# Altium schematic symbol library WS-TATV.SchLib: 24 symbols
Pins are listed as number, name and electrical type; pins without a type are passive.

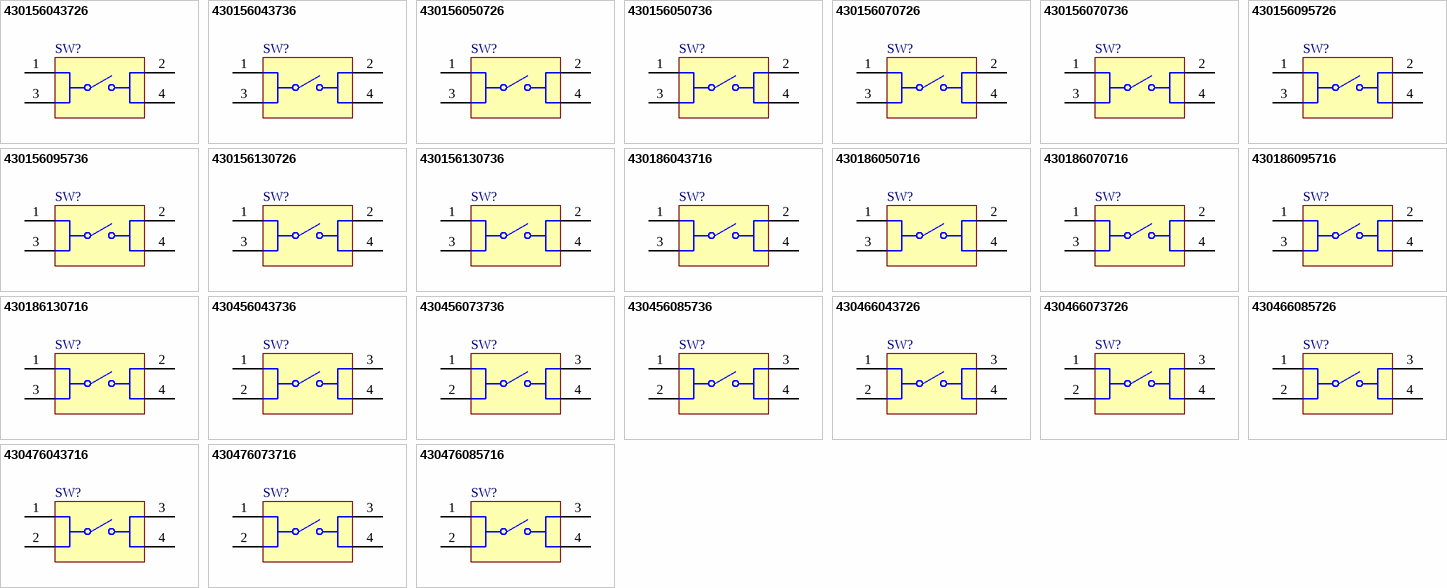
[diagram p0: symbols 430156043726 to 430476085716]

## 430156043726
designator SW?  (value not drawn)
WS-TATV THT Tact Switch 6x6mm, 260g, SPST-NO, 12V, 50mA; Manufacturer: Wurth Elektronik; Washable: No; Manufacturer Part Number: 430156043726; Category: Tact Switch; Match Code: WS-TATV; ComponentLink1Description: Website Link; ComponentLink1URL: https://www.we-online.com; ComponentLink2Description: Datasheet Link; ComponentLink2URL: https://www.we-online.com/components/products/datasheet/430156043726; Mount: Through Hole; Operating Temperature Min: -40degC; Operating Temperature Max: 85degC; Packaging: Bulk; Length: 6mm; Width: 6mm; Height: 4.3mm; Circuit: SPST-NO; Contact Material: Stainless Steel; Contact Plating: Silver; Operation Force: 260g; Rated Current: 50mA; Rated Voltage (DC): 12V; Terminal Material: Copper Alloy; Terminal Plating: Silver
footprint 430156043726
pins: 1, 2, 3, 4

## 430156043736
designator SW?  (value not drawn)
WS-TATV THT Tact Switch 6x6mm, 360g, SPST-NO, 12V, 50mA; Manufacturer: Wurth Elektronik; Washable: No; Manufacturer Part Number: 430156043736; Category: Tact Switch; Match Code: WS-TATV; ComponentLink1Description: Website Link; ComponentLink1URL: https://www.we-online.com; ComponentLink2Description: Datasheet Link; ComponentLink2URL: https://www.we-online.com/components/products/datasheet/430156043736; Mount: Through Hole; Operating Temperature Min: -40degC; Operating Temperature Max: 85degC; Packaging: Bulk; Length: 6mm; Width: 6mm; Height: 4.3mm; Circuit: SPST-NO; Contact Material: Stainless Steel; Contact Plating: Silver; Operation Force: 360g; Rated Current: 50mA; Rated Voltage (DC): 12V; Terminal Material: Copper Alloy; Terminal Plating: Silver
footprint 430156043736
pins: 1, 2, 3, 4

## 430156050726
designator SW?  (value not drawn)
WS-TATV THT Tact Switch 6x6mm, 260g, SPST-NO, 12V, 50mA; Manufacturer: Wurth Elektronik; Washable: No; Manufacturer Part Number: 430156050726; Category: Tact Switch; Match Code: WS-TATV; ComponentLink1Description: Website Link; ComponentLink1URL: https://www.we-online.com; ComponentLink2Description: Datasheet Link; ComponentLink2URL: https://www.we-online.com/components/products/datasheet/430156050726; Mount: Through Hole; Operating Temperature Min: -40degC; Operating Temperature Max: 85degC; Packaging: Bulk; Length: 6mm; Width: 6mm; Height: 5mm; Circuit: SPST-NO; Contact Material: Stainless Steel; Contact Plating: Silver; Operation Force: 260g; Rated Current: 50mA; Rated Voltage (DC): 12V; Terminal Material: Copper Alloy; Terminal Plating: Silver
footprint 430156050726
pins: 1, 2, 3, 4

## 430156050736
designator SW?  (value not drawn)
WS-TATV THT Tact Switch 6x6mm, 360g, SPST-NO, 12V, 50mA; Manufacturer: Wurth Elektronik; Washable: No; Manufacturer Part Number: 430156050736; Category: Tact Switch; Match Code: WS-TATV; ComponentLink1Description: Website Link; ComponentLink1URL: https://www.we-online.com; ComponentLink2Description: Datasheet Link; ComponentLink2URL: https://www.we-online.com/components/products/datasheet/430156050736; Mount: Through Hole; Operating Temperature Min: -40degC; Operating Temperature Max: 85degC; Packaging: Bulk; Length: 6mm; Width: 6mm; Height: 5mm; Circuit: SPST-NO; Contact Material: Stainless Steel; Contact Plating: Silver; Operation Force: 360g; Rated Current: 50mA; Rated Voltage (DC): 12V; Terminal Material: Copper Alloy; Terminal Plating: Silver
footprint 430156050736
pins: 1, 2, 3, 4

## 430156070726
designator SW?  (value not drawn)
WS-TATV THT Tact Switch 6x6mm, 260g, SPST-NO, 12V, 50mA; Manufacturer: Wurth Elektronik; Washable: No; Manufacturer Part Number: 430156070726; Category: Tact Switch; Match Code: WS-TATV; ComponentLink1Description: Website Link; ComponentLink1URL: https://www.we-online.com; ComponentLink2Description: Datasheet Link; ComponentLink2URL: https://www.we-online.com/components/products/datasheet/430156070726; Mount: Through Hole; Operating Temperature Min: -40degC; Operating Temperature Max: 85degC; Packaging: Bulk; Length: 6mm; Width: 6mm; Height: 7mm; Circuit: SPST-NO; Contact Material: Stainless Steel; Contact Plating: Silver; Operation Force: 260g; Rated Current: 50mA; Rated Voltage (DC): 12V; Terminal Material: Copper Alloy; Terminal Plating: Silver
footprint 430156070726
pins: 1, 2, 3, 4

## 430156070736
designator SW?  (value not drawn)
WS-TATV THT Tact Switch 6x6mm, 360g, SPST-NO, 12V, 50mA; Manufacturer: Wurth Elektronik; Washable: No; Manufacturer Part Number: 430156070736; Category: Tact Switch; Match Code: WS-TATV; ComponentLink1Description: Website Link; ComponentLink1URL: https://www.we-online.com; ComponentLink2Description: Datasheet Link; ComponentLink2URL: https://www.we-online.com/components/products/datasheet/430156070736; Mount: Through Hole; Operating Temperature Min: -40degC; Operating Temperature Max: 85degC; Packaging: Bulk; Length: 6mm; Width: 6mm; Height: 7mm; Circuit: SPST-NO; Contact Material: Stainless Steel; Contact Plating: Silver; Operation Force: 360g; Rated Current: 50mA; Rated Voltage (DC): 12V; Terminal Material: Copper Alloy; Terminal Plating: Silver
footprint 430156070736
pins: 1, 2, 3, 4

## 430156095726
designator SW?  (value not drawn)
WS-TATV THT Tact Switch 6x6mm, 260g, SPST-NO, 12V, 50mA; Manufacturer: Wurth Elektronik; Washable: No; Manufacturer Part Number: 430156095726; Category: Tact Switch; Match Code: WS-TATV; ComponentLink1Description: Website Link; ComponentLink1URL: https://www.we-online.com; ComponentLink2Description: Datasheet Link; ComponentLink2URL: https://www.we-online.com/components/products/datasheet/430156095726; Mount: Through Hole; Operating Temperature Min: -40degC; Operating Temperature Max: 85degC; Packaging: Bulk; Length: 6mm; Width: 6mm; Height: 9.5mm; Circuit: SPST-NO; Contact Material: Stainless Steel; Contact Plating: Silver; Operation Force: 260g; Rated Current: 50mA; Rated Voltage (DC): 12V; Terminal Material: Copper Alloy; Terminal Plating: Silver
footprint 430156095726
pins: 1, 2, 3, 4

## 430156095736
designator SW?  (value not drawn)
WS-TATV THT Tact Switch 6x6mm, 360g, SPST-NO, 12V, 50mA; Manufacturer: Wurth Elektronik; Washable: No; Manufacturer Part Number: 430156095736; Category: Tact Switch; Match Code: WS-TATV; ComponentLink1Description: Website Link; ComponentLink1URL: https://www.we-online.com; ComponentLink2Description: Datasheet Link; ComponentLink2URL: https://www.we-online.com/components/products/datasheet/430156095736; Mount: Through Hole; Operating Temperature Min: -40degC; Operating Temperature Max: 85degC; Packaging: Bulk; Length: 6mm; Width: 6mm; Height: 9.5mm; Circuit: SPST-NO; Contact Material: Stainless Steel; Contact Plating: Silver; Operation Force: 360g; Rated Current: 50mA; Rated Voltage (DC): 12V; Terminal Material: Copper Alloy; Terminal Plating: Silver
footprint 430156095736
pins: 1, 2, 3, 4

## 430156130726
designator SW?  (value not drawn)
WS-TATV THT Tact Switch 6x6 mm, 260g, SPST-NO, 12V, 50mA; Manufacturer: Wurth Elektronik; Washable: No; Manufacturer Part Number: 430156130726; Category: Tact Switch; Match Code: WS-TATV; ComponentLink1Description: Website Link; ComponentLink1URL: https://www.we-online.com; ComponentLink2Description: Datasheet Link; ComponentLink2URL: https://www.we-online.com/components/products/datasheet/430156130726; Mount: Through Hole; Operating Temperature Min: -40degC; Operating Temperature Max: 85degC; Packaging: Bulk; Length: 6.2mm; Width: 6.2mm; Height: 13mm; Circuit: SPST-NO; Contact Material: Stainless Steel; Contact Plating: Silver; Operation Force: 260g; Rated Current: 50mA; Rated Voltage (DC): 12V; Terminal Material: Copper Alloy; Terminal Plating: Silver
footprint 430156130726
pins: 1, 2, 3, 4

## 430156130736
designator SW?  (value not drawn)
WS-TATV THT Tact Switch 6x6 mm, 360g, SPST-NO, 12V, 50mA; Manufacturer: Wurth Elektronik; Washable: No; Manufacturer Part Number: 430156130736; Category: Tact Switch; Match Code: WS-TATV; ComponentLink1Description: Website Link; ComponentLink1URL: https://www.we-online.com; ComponentLink2Description: Datasheet Link; ComponentLink2URL: https://www.we-online.com/components/products/datasheet/430156130736; Mount: Through Hole; Operating Temperature Min: -40degC; Operating Temperature Max: 85degC; Packaging: Bulk; Length: 6.2mm; Width: 6.2mm; Height: 13mm; Circuit: SPST-NO; Contact Material: Stainless Steel; Contact Plating: Silver; Operation Force: 360g; Rated Current: 50mA; Rated Voltage (DC): 12V; Terminal Material: Copper Alloy; Terminal Plating: Silver
footprint 430156130736
pins: 1, 2, 3, 4

## 430186043716
designator SW?  (value not drawn)
WS-TATV THT Tact Switch 6x6mm, 160g, SPST-NO, 12V, 50mA; Manufacturer: Wurth Elektronik; Washable: No; Manufacturer Part Number: 430186043716; Category: Tact Switch; Match Code: WS-TATV; ComponentLink1Description: Website Link; ComponentLink1URL: https://www.we-online.com; ComponentLink2Description: Datasheet Link; ComponentLink2URL: https://www.we-online.com/components/products/datasheet/430186043716; Mount: Through Hole; Operating Temperature Min: -40degC; Operating Temperature Max: 85degC; Packaging: Bulk; Length: 6mm; Width: 6mm; Height: 4.3mm; Circuit: SPST-NO; Contact Material: Stainless Steel; Contact Plating: Silver; Operation Force: 160g; Rated Current: 50mA; Rated Voltage (DC): 12V; Terminal Material: Copper Alloy; Terminal Plating: Silver
footprint 430186043716
pins: 1, 2, 3, 4

## 430186050716
designator SW?  (value not drawn)
WS-TATV THT Tact Switch 6x6mm, 160g, SPST-NO, 12V, 50mA; Manufacturer: Wurth Elektronik; Washable: No; Manufacturer Part Number: 430186050716; Category: Tact Switch; Match Code: WS-TATV; ComponentLink1Description: Website Link; ComponentLink1URL: https://www.we-online.com; ComponentLink2Description: Datasheet Link; ComponentLink2URL: https://www.we-online.com/components/products/datasheet/430186050716; Mount: Through Hole; Operating Temperature Min: -40degC; Operating Temperature Max: 85degC; Packaging: Bulk; Length: 6mm; Width: 6mm; Height: 5mm; Circuit: SPST-NO; Contact Material: Stainless Steel; Contact Plating: Silver; Operation Force: 160g; Rated Current: 50mA; Rated Voltage (DC): 12V; Terminal Material: Copper Alloy; Terminal Plating: Silver
footprint 430186050716
pins: 1, 2, 3, 4

## 430186070716
designator SW?  (value not drawn)
WS-TATV THT Tact Switch 6x6mm, 160g, SPST-NO, 12V, 50mA; Manufacturer: Wurth Elektronik; Washable: No; Manufacturer Part Number: 430186070716; Category: Tact Switch; Match Code: WS-TATV; ComponentLink1Description: Website Link; ComponentLink1URL: https://www.we-online.com; ComponentLink2Description: Datasheet Link; ComponentLink2URL: https://www.we-online.com/components/products/datasheet/430186070716; Mount: Through Hole; Operating Temperature Min: -40degC; Operating Temperature Max: 85degC; Packaging: Bulk; Length: 6mm; Width: 6mm; Height: 7mm; Circuit: SPST-NO; Contact Material: Stainless Steel; Contact Plating: Silver; Operation Force: 160g; Rated Current: 50mA; Rated Voltage (DC): 12V; Terminal Material: Copper Alloy; Terminal Plating: Silver
footprint 430186070716
pins: 1, 2, 3, 4

## 430186095716
designator SW?  (value not drawn)
WS-TATV THT Tact Switch 6x6mm, 160g, SPST-NO, 12V, 50mA; Manufacturer: Wurth Elektronik; Washable: No; Manufacturer Part Number: 430186095716; Category: Tact Switch; Match Code: WS-TATV; ComponentLink1Description: Website Link; ComponentLink1URL: https://www.we-online.com; ComponentLink2Description: Datasheet Link; ComponentLink2URL: https://www.we-online.com/components/products/datasheet/430186095716; Mount: Through Hole; Operating Temperature Min: -40degC; Operating Temperature Max: 85degC; Packaging: Bulk; Length: 6mm; Width: 6mm; Height: 9.5mm; Circuit: SPST-NO; Contact Material: Stainless Steel; Contact Plating: Silver; Operation Force: 160g; Rated Current: 50mA; Rated Voltage (DC): 12V; Terminal Material: Copper Alloy; Terminal Plating: Silver
footprint 430186095716
pins: 1, 2, 3, 4

## 430186130716
designator SW?  (value not drawn)
WS-TATV THT Tact Switch 6x6 mm, 160g, SPST-NO, 12V, 50mA; Manufacturer: Wurth Elektronik; Washable: No; Manufacturer Part Number: 430186130716; Category: Tact Switch; Match Code: WS-TATV; ComponentLink1Description: Website Link; ComponentLink1URL: https://www.we-online.com; ComponentLink2Description: Datasheet Link; ComponentLink2URL: https://www.we-online.com/components/products/datasheet/430186130716; Mount: Through Hole; Operating Temperature Min: -40degC; Operating Temperature Max: 85degC; Packaging: Bulk; Length: 6.2mm; Width: 6.2mm; Height: 13mm; Circuit: SPST-NO; Contact Material: Stainless Steel; Contact Plating: Silver; Operation Force: 160g; Rated Current: 50mA; Rated Voltage (DC): 12V; Terminal Material: Copper Alloy; Terminal Plating: Silver
footprint 430186130716
pins: 1, 2, 3, 4

## 430456043736
designator SW?  (value not drawn)
WS-TATV THT Washable Tact Switch 12x12mm, 360g, SPST-NO, 12V, 50mA; Manufacturer: Wurth Elektronik; Washable: Yes; Manufacturer Part Number: 430456043736; Category: Tact Switch; Match Code: WS-TATV; ComponentLink1Description: Website Link; ComponentLink1URL: https://www.we-online.com; ComponentLink2Description: Datasheet Link; ComponentLink2URL: https://www.we-online.com/components/products/datasheet/430456043736; Mount: Through Hole; Operating Temperature Min: -40degC; Operating Temperature Max: 85degC; Packaging: Bulk; Length: 12mm; Width: 12mm; Height: 4.3mm; Circuit: SPST-NO; Contact Material: Stainless Steel; Contact Plating: Silver; Operation Force: 360g; Rated Current: 50mA; Rated Voltage (DC): 12V; Terminal Material: Copper Alloy; Terminal Plating: Silver
footprint 430456043736
pins: 1, 2, 3, 4

## 430456073736
designator SW?  (value not drawn)
WS-TATV THT Washable Tact Switch 12x12mm, 360g, SPST-NO, 12V, 50mA; Manufacturer: Wurth Elektronik; Washable: Yes; Manufacturer Part Number: 430456073736; Category: Tact Switch; Match Code: WS-TATV; ComponentLink1Description: Website Link; ComponentLink1URL: https://www.we-online.com; ComponentLink2Description: Datasheet Link; ComponentLink2URL: https://www.we-online.com/components/products/datasheet/430456073736; Mount: Through Hole; Operating Temperature Min: -40degC; Operating Temperature Max: 85degC; Packaging: Bulk; Length: 12mm; Width: 12mm; Height: 7.3mm; Circuit: SPST-NO; Contact Material: Stainless Steel; Contact Plating: Silver; Operation Force: 360g; Rated Current: 50mA; Rated Voltage (DC): 12V; Terminal Material: Copper Alloy; Terminal Plating: Silver
footprint 430456073736
pins: 1, 2, 3, 4

## 430456085736
designator SW?  (value not drawn)
WS-TATV THT Washable Tact Switch 12x12mm, 360g, SPST-NO, 12V, 50mA; Manufacturer: Wurth Elektronik; Washable: Yes; Manufacturer Part Number: 430456085736; Category: Tact Switch; Match Code: WS-TATV; ComponentLink1Description: Website Link; ComponentLink1URL: https://www.we-online.com; ComponentLink2Description: Datasheet Link; ComponentLink2URL: https://www.we-online.com/components/products/datasheet/430456085736; Mount: Through Hole; Operating Temperature Min: -40degC; Operating Temperature Max: 85degC; Packaging: Bulk; Length: 12mm; Width: 12mm; Height: 8.5mm; Circuit: SPST-NO; Contact Material: Stainless Steel; Contact Plating: Silver; Operation Force: 360g; Rated Current: 50mA; Rated Voltage (DC): 12V; Terminal Material: Copper Alloy; Terminal Plating: Silver
footprint 430456085736
pins: 1, 2, 3, 4

## 430466043726
designator SW?  (value not drawn)
WS-TATV THT Washable Tact Switch 12x12mm, 260g, SPST-NO, 12V, 50mA; Manufacturer: Wurth Elektronik; Washable: Yes; Manufacturer Part Number: 430466043726; Category: Tact Switch; Match Code: WS-TATV; ComponentLink1Description: Website Link; ComponentLink1URL: https://www.we-online.com; ComponentLink2Description: Datasheet Link; ComponentLink2URL: https://www.we-online.com/components/products/datasheet/430466043726; Mount: Through Hole; Operating Temperature Min: -40degC; Operating Temperature Max: 85degC; Packaging: Bulk; Length: 12mm; Width: 12mm; Height: 4.3mm; Circuit: SPST-NO; Contact Material: Stainless Steel; Contact Plating: Silver; Operation Force: 260g; Rated Current: 50mA; Rated Voltage (DC): 12V; Terminal Material: Copper Alloy; Terminal Plating: Silver
footprint 430466043726
pins: 1, 2, 3, 4

## 430466073726
designator SW?  (value not drawn)
WS-TATV THT Washable Tact Switch 12x12mm, 260g, SPST-NO, 12V, 50mA; Manufacturer: Wurth Elektronik; Washable: Yes; Manufacturer Part Number: 430466073726; Category: Tact Switch; Match Code: WS-TATV; ComponentLink1Description: Website Link; ComponentLink1URL: https://www.we-online.com; ComponentLink2Description: Datasheet Link; ComponentLink2URL: https://www.we-online.com/components/products/datasheet/430466073726; Mount: Through Hole; Operating Temperature Min: -40degC; Operating Temperature Max: 85degC; Packaging: Bulk; Length: 12mm; Width: 12mm; Height: 7.3mm; Circuit: SPST-NO; Contact Material: Stainless Steel; Contact Plating: Silver; Operation Force: 260g; Rated Current: 50mA; Rated Voltage (DC): 12V; Terminal Material: Copper Alloy; Terminal Plating: Silver
footprint 430466073726
pins: 1, 2, 3, 4

## 430466085726
designator SW?  (value not drawn)
WS-TATV THT Washable Tact Switch 12x12mm, 260g, SPST-NO, 12V, 50mA; Manufacturer: Wurth Elektronik; Washable: Yes; Manufacturer Part Number: 430466085726; Category: Tact Switch; Match Code: WS-TATV; ComponentLink1Description: Website Link; ComponentLink1URL: https://www.we-online.com; ComponentLink2Description: Datasheet Link; ComponentLink2URL: https://www.we-online.com/components/products/datasheet/430466085726; Mount: Through Hole; Operating Temperature Min: -40degC; Operating Temperature Max: 85degC; Packaging: Bulk; Length: 12mm; Width: 12mm; Height: 8.5mm; Circuit: SPST-NO; Contact Material: Stainless Steel; Contact Plating: Silver; Operation Force: 260g; Rated Current: 50mA; Rated Voltage (DC): 12V; Terminal Material: Copper Alloy; Terminal Plating: Silver
footprint 430466085726
pins: 1, 2, 3, 4

## 430476043716
designator SW?  (value not drawn)
WS-TATV THT Washable Tact Switch 12x12mm, 160g, SPST-NO, 12V, 50mA; Manufacturer: Wurth Elektronik; Washable: Yes; Manufacturer Part Number: 430476043716; Category: Tact Switch; Match Code: WS-TATV; ComponentLink1Description: Website Link; ComponentLink1URL: https://www.we-online.com; ComponentLink2Description: Datasheet Link; ComponentLink2URL: https://www.we-online.com/components/products/datasheet/430476043716; Mount: Through Hole; Operating Temperature Min: -40degC; Operating Temperature Max: 85degC; Packaging: Bulk; Length: 12mm; Width: 12mm; Height: 4.3mm; Circuit: SPST-NO; Contact Material: Stainless Steel; Contact Plating: Silver; Operation Force: 160g; Rated Current: 50mA; Rated Voltage (DC): 12V; Terminal Material: Copper Alloy; Terminal Plating: Silver
footprint 430476043716
pins: 1, 2, 3, 4

## 430476073716
designator SW?  (value not drawn)
WS-TATV THT Washable Tact Switch 12x12mm, 160g, SPST-NO, 12V, 50mA; Manufacturer: Wurth Elektronik; Washable: Yes; Manufacturer Part Number: 430476073716; Category: Tact Switch; Match Code: WS-TATV; ComponentLink1Description: Website Link; ComponentLink1URL: https://www.we-online.com; ComponentLink2Description: Datasheet Link; ComponentLink2URL: https://www.we-online.com/components/products/datasheet/430476073716; Mount: Through Hole; Operating Temperature Min: -40degC; Operating Temperature Max: 85degC; Packaging: Bulk; Length: 12mm; Width: 12mm; Height: 7.3mm; Circuit: SPST-NO; Contact Material: Stainless Steel; Contact Plating: Silver; Operation Force: 160g; Rated Current: 50mA; Rated Voltage (DC): 12V; Terminal Material: Copper Alloy; Terminal Plating: Silver
footprint 430476073716
pins: 1, 2, 3, 4

## 430476085716
designator SW?  (value not drawn)
WS-TATV THT Washable Tact Switch 12x12mm, 160g, SPST-NO, 12V, 50mA; Manufacturer: Wurth Elektronik; Washable: Yes; Manufacturer Part Number: 430476085716; Category: Tact Switch; Match Code: WS-TATV; ComponentLink1Description: Website Link; ComponentLink1URL: https://www.we-online.com; ComponentLink2Description: Datasheet Link; ComponentLink2URL: https://www.we-online.com/components/products/datasheet/430476085716; Mount: Through Hole; Operating Temperature Min: -40degC; Operating Temperature Max: 85degC; Packaging: Bulk; Length: 12mm; Width: 12mm; Height: 8.5mm; Circuit: SPST-NO; Contact Material: Stainless Steel; Contact Plating: Silver; Operation Force: 160g; Rated Current: 50mA; Rated Voltage (DC): 12V; Terminal Material: Copper Alloy; Terminal Plating: Silver
footprint 430476085716
pins: 1, 2, 3, 4